# EAGLE library part ALD8100XX (library ALD8100xx)
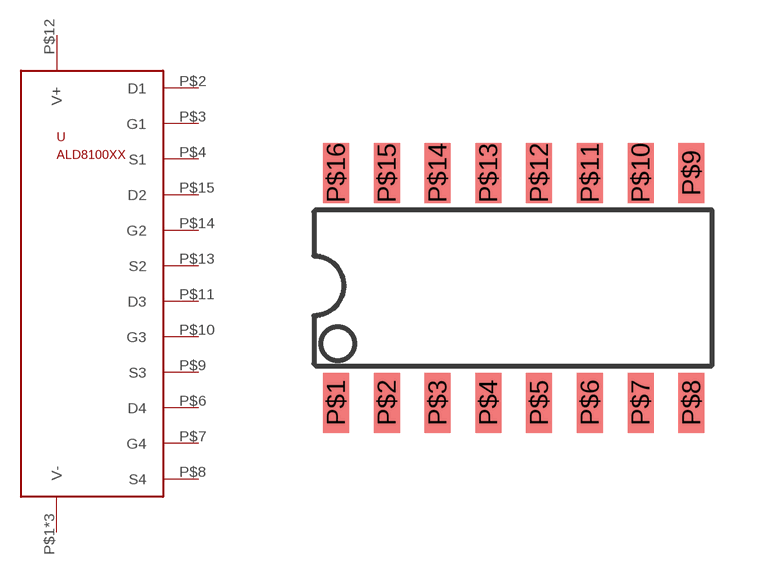
[diagram p0: symbol with the pads of SOIC16_NARROW; footprint SOIC16_NARROW]

Designator prefix -

## ALD8100XXSOIC  [SOIC16_NARROW]
P$1  V-
P$2  D1
P$3  G1
P$4  S1
P$5  V-
P$6  D4
P$7  G4
P$8  S4
P$9  S3
P$10  G3
P$11  D3
P$12  V+
P$13  S2
P$14  G2
P$15  D2
P$16  V-

## Footprint SOIC16_NARROW (pad centres in mm)
smd 0.65 x 1.5: P$1 -4.445,-2.875; P$2 -3.175,-2.875; P$3 -1.905,-2.875; P$4 -0.635,-2.875; P$5 0.635,-2.875; P$6 1.905,-2.875; P$7 3.175,-2.875; P$8 4.445,-2.875; P$9 4.445,2.875; P$10 3.175,2.875; P$11 1.905,2.875; P$12 0.635,2.875; P$13 -0.635,2.875; P$14 -1.905,2.875; P$15 -3.175,2.875; P$16 -4.445,2.875